# Altium footprint library Common-Parts-Library.PcbLib: 530 footprints (part 14 of 34)
Each footprint in its own frame and in the unit in brackets; x right, y up, seen from the top. Pads: shape width x height; smd on the part's side, far side on the other; paste and mask are expansions set on the pad; w line width, h text height; cw(c..) or ccw(c..) is an arc to the next point about the centre after c.
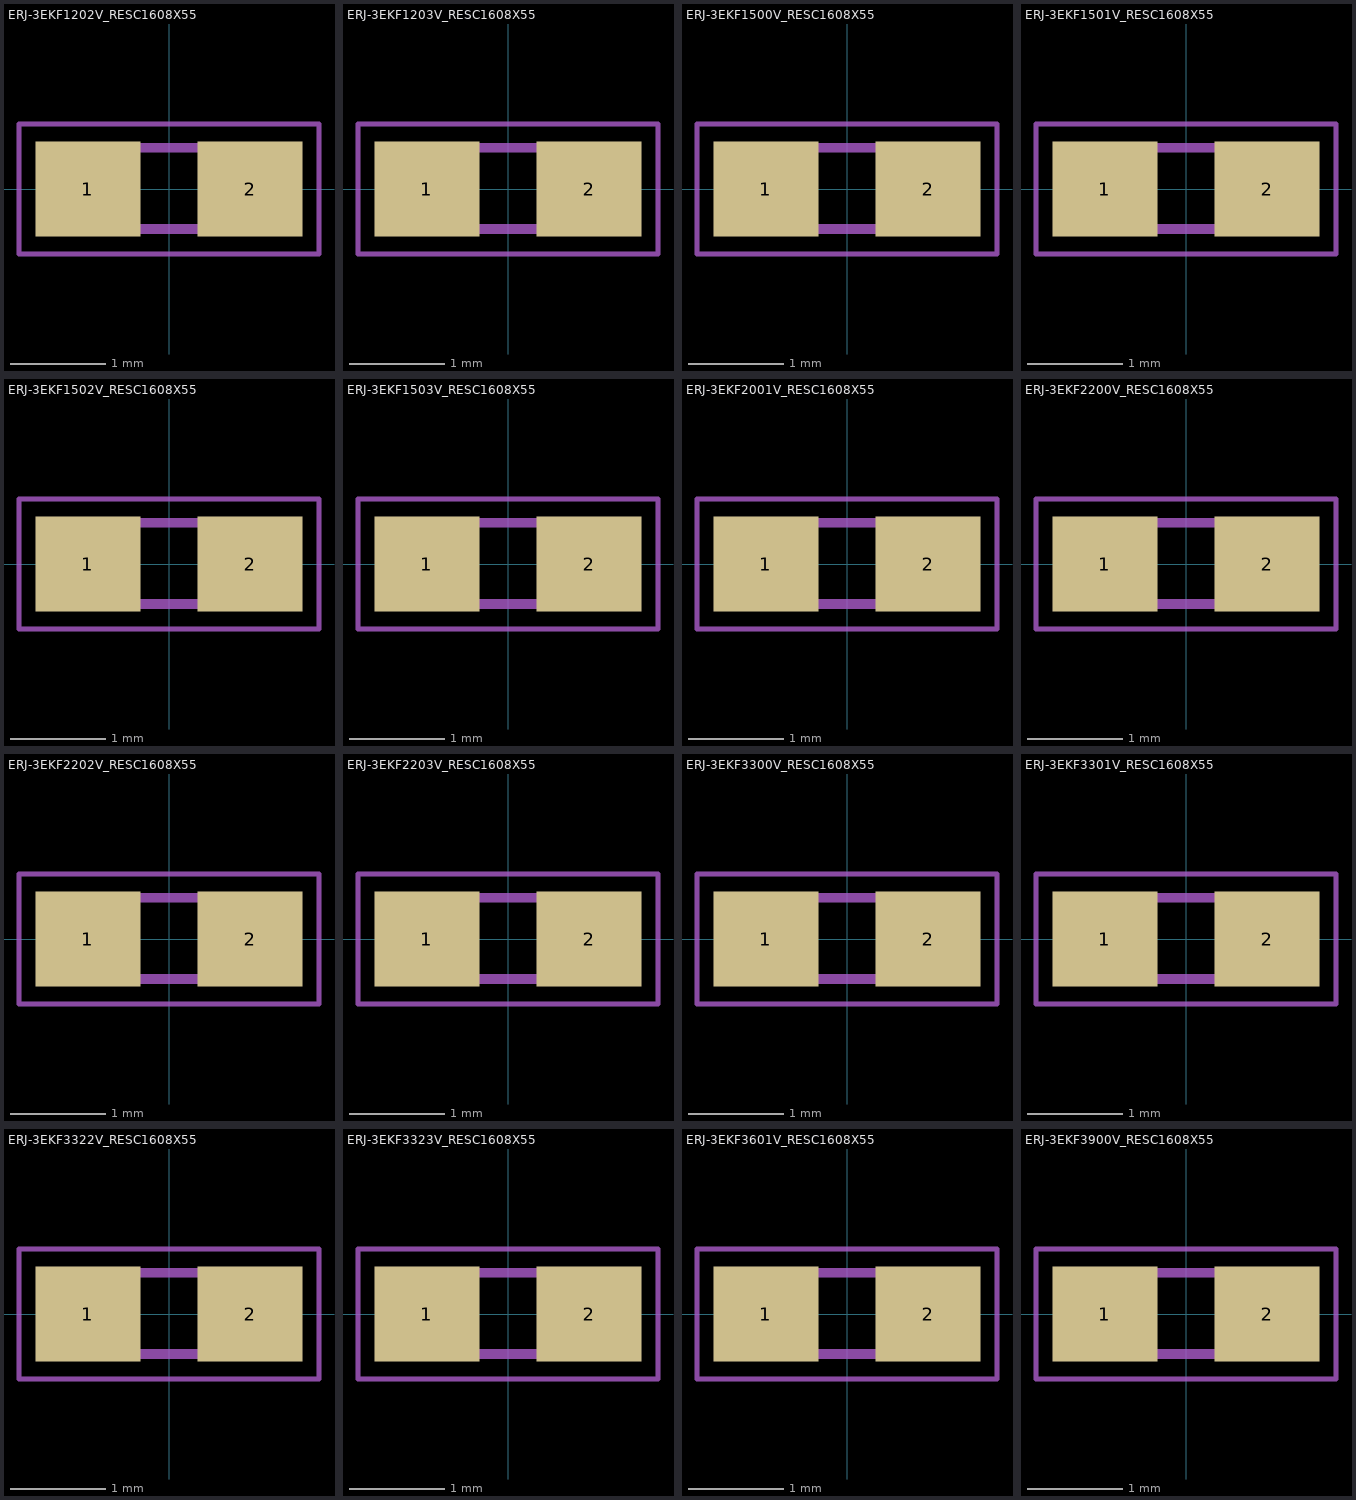
[diagram p13: the footprints below, top view; thin cyan lines are the x and y axes]

## ERJ-3EKF1202V_RESC1608X55 [mm]
pads (2):
  rect 1.1x1 smd: 1(-0.85,0) 2(0.85,0)
Mechanical 1:
  region: 0.331,0.48 0.83,0.48 0.83,-0.471 0.331,-0.471
  region: -0.841,0.48 -0.338,0.48 -0.338,-0.472 -0.841,-0.472
  lines w0.051: -1.573,-0.683 -1.573,0.683 1.573,0.683 1.573,-0.683 -1.573,-0.683
  lines w0.102: -0.356,-0.419 0.356,-0.419 ; -0.356,0.432 0.356,0.432

## ERJ-3EKF1203V_RESC1608X55 [mm]
pads (2):
  rect 1.1x1 smd: 1(-0.85,0) 2(0.85,0)
Mechanical 1:
  region: 0.33,0.48 0.83,0.48 0.83,-0.47 0.33,-0.47
  region: -0.839,0.48 -0.338,0.48 -0.338,-0.47 -0.839,-0.47
  lines w0.051: -1.573,-0.683 -1.573,0.683 1.573,0.683 1.573,-0.683 -1.573,-0.683
  lines w0.102: -0.356,-0.419 0.356,-0.419 ; -0.356,0.432 0.356,0.432

## ERJ-3EKF1500V_RESC1608X55 [mm]
pads (2):
  rect 1.1x1 smd: 1(-0.85,0) 2(0.85,0)
Mechanical 1:
  region: 0.331,0.48 0.83,0.48 0.83,-0.471 0.331,-0.471
  region: -0.841,0.48 -0.338,0.48 -0.338,-0.471 -0.841,-0.471
  lines w0.051: -1.573,-0.683 -1.573,0.683 1.573,0.683 1.573,-0.683 -1.573,-0.683
  lines w0.102: -0.356,-0.419 0.356,-0.419 ; -0.356,0.432 0.356,0.432

## ERJ-3EKF1501V_RESC1608X55 [mm]
pads (2):
  rect 1.1x1 smd: 1(-0.85,0) 2(0.85,0)
Mechanical 1:
  region: 0.331,0.48 0.83,0.48 0.83,-0.471 0.331,-0.471
  region: -0.84,0.48 -0.338,0.48 -0.338,-0.471 -0.84,-0.471
  lines w0.051: -1.573,-0.683 -1.573,0.683 1.573,0.683 1.573,-0.683 -1.573,-0.683
  lines w0.102: -0.356,-0.419 0.356,-0.419 ; -0.356,0.432 0.356,0.432

## ERJ-3EKF1502V_RESC1608X55 [mm]
pads (2):
  rect 1.1x1 smd: 1(-0.85,0) 2(0.85,0)
Mechanical 1:
  region: 0.331,0.48 0.83,0.48 0.83,-0.471 0.331,-0.471
  region: -0.841,0.48 -0.338,0.48 -0.338,-0.472 -0.841,-0.472
  lines w0.051: -1.573,-0.683 -1.573,0.683 1.573,0.683 1.573,-0.683 -1.573,-0.683
  lines w0.102: -0.356,-0.419 0.356,-0.419 ; -0.356,0.432 0.356,0.432

## ERJ-3EKF1503V_RESC1608X55 [mm]
pads (2):
  rect 1.1x1 smd: 1(-0.85,0) 2(0.85,0)
Mechanical 1:
  region: 0.331,0.48 0.83,0.48 0.83,-0.471 0.331,-0.471
  region: -0.84,0.48 -0.338,0.48 -0.338,-0.471 -0.84,-0.471
  lines w0.051: -1.573,-0.683 -1.573,0.683 1.573,0.683 1.573,-0.683 -1.573,-0.683
  lines w0.102: -0.356,-0.419 0.356,-0.419 ; -0.356,0.432 0.356,0.432

## ERJ-3EKF2001V_RESC1608X55 [mm]
pads (2):
  rect 1.1x1 smd: 1(-0.85,0) 2(0.85,0)
Mechanical 1:
  region: 0.331,0.48 0.83,0.48 0.83,-0.471 0.331,-0.471
  region: -0.841,0.48 -0.338,0.48 -0.338,-0.471 -0.841,-0.471
  lines w0.051: -1.573,-0.683 -1.573,0.683 1.573,0.683 1.573,-0.683 -1.573,-0.683
  lines w0.102: -0.356,-0.419 0.356,-0.419 ; -0.356,0.432 0.356,0.432

## ERJ-3EKF2200V_RESC1608X55 [mm]
pads (2):
  rect 1.1x1 smd: 1(-0.85,0) 2(0.85,0)
Mechanical 1:
  region: 0.33,0.48 0.83,0.48 0.83,-0.47 0.33,-0.47
  region: -0.84,0.48 -0.338,0.48 -0.338,-0.471 -0.84,-0.471
  lines w0.051: -1.573,-0.683 -1.573,0.683 1.573,0.683 1.573,-0.683 -1.573,-0.683
  lines w0.102: -0.356,-0.419 0.356,-0.419 ; -0.356,0.432 0.356,0.432

## ERJ-3EKF2202V_RESC1608X55 [mm]
pads (2):
  rect 1.1x1 smd: 1(-0.85,0) 2(0.85,0)
Mechanical 1:
  region: 0.331,0.48 0.83,0.48 0.83,-0.47 0.331,-0.47
  region: -0.839,0.48 -0.338,0.48 -0.338,-0.471 -0.839,-0.471
  lines w0.051: -1.573,-0.683 -1.573,0.683 1.573,0.683 1.573,-0.683 -1.573,-0.683
  lines w0.102: -0.356,-0.419 0.356,-0.419 ; -0.356,0.432 0.356,0.432

## ERJ-3EKF2203V_RESC1608X55 [mm]
pads (2):
  rect 1.1x1 smd: 1(-0.85,0) 2(0.85,0)
Mechanical 1:
  region: 0.331,0.48 0.83,0.48 0.83,-0.471 0.331,-0.471
  region: -0.839,0.48 -0.338,0.48 -0.338,-0.471 -0.839,-0.471
  lines w0.051: -1.573,-0.683 -1.573,0.683 1.573,0.683 1.573,-0.683 -1.573,-0.683
  lines w0.102: -0.356,-0.419 0.356,-0.419 ; -0.356,0.432 0.356,0.432

## ERJ-3EKF3300V_RESC1608X55 [mm]
pads (2):
  rect 1.1x1 smd: 1(-0.85,0) 2(0.85,0)
Mechanical 1:
  region: 0.331,0.48 0.83,0.48 0.83,-0.471 0.331,-0.471
  region: -0.841,0.48 -0.338,0.48 -0.338,-0.471 -0.841,-0.471
  lines w0.051: -1.573,-0.683 -1.573,0.683 1.573,0.683 1.573,-0.683 -1.573,-0.683
  lines w0.102: -0.356,-0.419 0.356,-0.419 ; -0.356,0.432 0.356,0.432

## ERJ-3EKF3301V_RESC1608X55 [mm]
pads (2):
  rect 1.1x1 smd: 1(-0.85,0) 2(0.85,0)
Mechanical 1:
  region: 0.331,0.48 0.83,0.48 0.83,-0.471 0.331,-0.471
  region: -0.84,0.48 -0.338,0.48 -0.338,-0.471 -0.84,-0.471
  lines w0.051: -1.573,-0.683 -1.573,0.683 1.573,0.683 1.573,-0.683 -1.573,-0.683
  lines w0.102: -0.356,-0.419 0.356,-0.419 ; -0.356,0.432 0.356,0.432

## ERJ-3EKF3322V_RESC1608X55 [mm]
pads (2):
  rect 1.1x1 smd: 1(-0.85,0) 2(0.85,0)
Mechanical 1:
  region: 0.331,0.48 0.83,0.48 0.83,-0.471 0.331,-0.471
  region: -0.84,0.48 -0.338,0.48 -0.338,-0.471 -0.84,-0.471
  lines w0.051: -1.573,-0.683 -1.573,0.683 1.573,0.683 1.573,-0.683 -1.573,-0.683
  lines w0.102: -0.356,-0.419 0.356,-0.419 ; -0.356,0.432 0.356,0.432

## ERJ-3EKF3323V_RESC1608X55 [mm]
pads (2):
  rect 1.1x1 smd: 1(-0.85,0) 2(0.85,0)
Mechanical 1:
  region: 0.331,0.48 0.83,0.48 0.83,-0.471 0.331,-0.471
  region: -0.84,0.48 -0.338,0.48 -0.338,-0.471 -0.84,-0.471
  lines w0.051: -1.573,-0.683 -1.573,0.683 1.573,0.683 1.573,-0.683 -1.573,-0.683
  lines w0.102: -0.356,-0.419 0.356,-0.419 ; -0.356,0.432 0.356,0.432

## ERJ-3EKF3601V_RESC1608X55 [mm]
pads (2):
  rect 1.1x1 smd: 1(-0.85,0) 2(0.85,0)
Mechanical 1:
  region: 0.331,0.48 0.83,0.48 0.83,-0.471 0.331,-0.471
  region: -0.84,0.48 -0.338,0.48 -0.338,-0.471 -0.84,-0.471
  lines w0.051: -1.573,-0.683 -1.573,0.683 1.573,0.683 1.573,-0.683 -1.573,-0.683
  lines w0.102: -0.356,-0.419 0.356,-0.419 ; -0.356,0.432 0.356,0.432

## ERJ-3EKF3900V_RESC1608X55 [mm]
pads (2):
  rect 1.1x1 smd: 1(-0.85,0) 2(0.85,0)
Mechanical 1:
  region: 0.331,0.48 0.83,0.48 0.83,-0.471 0.331,-0.471
  region: -0.839,0.48 -0.338,0.48 -0.338,-0.471 -0.839,-0.471
  lines w0.051: -1.573,-0.683 -1.573,0.683 1.573,0.683 1.573,-0.683 -1.573,-0.683
  lines w0.102: -0.356,-0.419 0.356,-0.419 ; -0.356,0.432 0.356,0.432